# EAGLE library part MAX4610CSD+T (library MAX4610CSD_T)
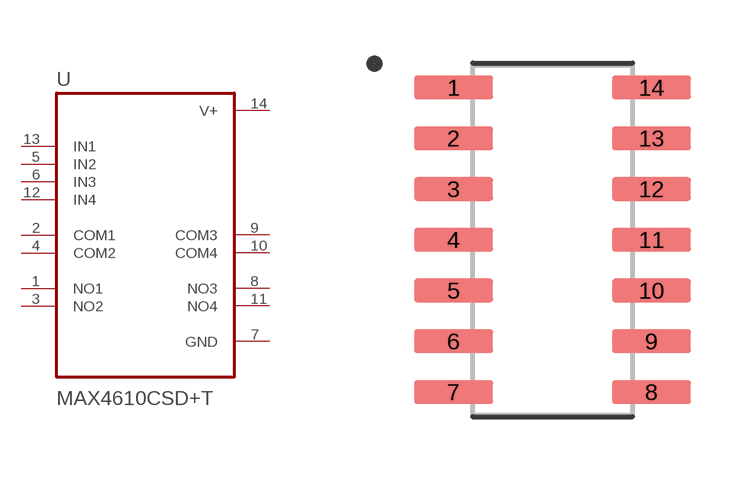
[diagram p0: symbol with the pads of SOIC127P600X175-14N; footprint SOIC127P600X175-14N]

Designator prefix U

## MAX4610CSD+T  [SOIC127P600X175-14N]
1  NO1
2  COM1
3  NO2
4  COM2
5  IN2  in
6  IN3  in
7  GND  pwr
8  NO3
9  COM3
10  COM4
11  NO4
12  IN4  in
13  IN1  in
14  V+  pwr

## Footprint SOIC127P600X175-14N (pad centres in mm)
smd 1.97 x 0.59: 1 -2.475,3.81; 2 -2.475,2.54; 3 -2.475,1.27; 4 -2.475,0; 5 -2.475,-1.27; 6 -2.475,-2.54; 7 -2.475,-3.81; 8 2.475,-3.81; 9 2.475,-2.54; 10 2.475,-1.27; 11 2.475,0; 12 2.475,1.27; 13 2.475,2.54; 14 2.475,3.81